# EAGLE library part ADNS-3530 (library avago_local)
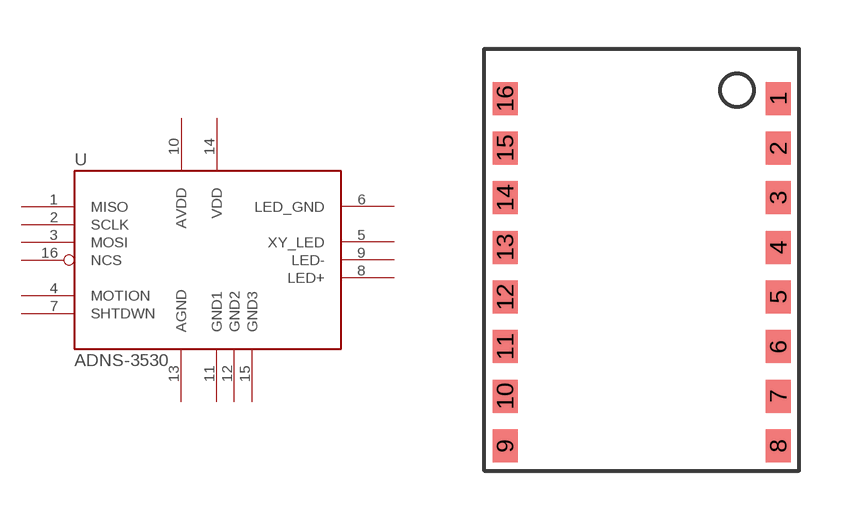
[diagram p0: symbol with the pads of ADNS-3530; footprint ADNS-3530]

Designator prefix U

## ADNS-3530_BOTTOM  [ADNS-3530]
1  MISO  hiz
2  SCLK  in
3  MOSI  in
4  MOTION  out
5  XY_LED  pas
6  LED_GND  pas
7  SHTDWN  in
8  LED+  pas
9  LED-  pas
10  AVDD  pas
11  GND1  pas
12  GND2  pas
13  AGND  pas
14  VDD  pas
15  GND3  pas
16  NCS  in

## Footprint ADNS-3530 (pad centres in mm)
smd 0.762 x 1.016: 1 4.191,5.08; 2 4.191,3.556; 3 4.191,2.032; 4 4.191,0.508; 5 4.191,-1.016; 6 4.191,-2.54; 7 4.191,-4.064; 8 4.191,-5.588; 9 -4.191,-5.588; 10 -4.191,-4.064; 11 -4.191,-2.54; 12 -4.191,-1.016; 13 -4.191,0.508; 14 -4.191,2.032; 15 -4.191,3.556; 16 -4.191,5.08